# Altium integrated library Capacitor_GOST.IntLib: 2 symbols
Pins are listed as number, name and electrical type; pins without a type are passive.

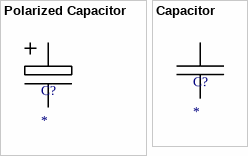
[diagram p0: symbols Polarized Capacitor to Сapacitor]

## Polarized Capacitor
designator C?
Value: *; VCC: *; Tolerance: *; Ta: *; Package: *; PartNumber: *; Manufacturer: *; ComponentLink1Description: Datasheet; ComponentLink1URL: *; ComponentLink2Description: Source; ComponentLink2URL: *
footprint TAJB106K025R
pins: 1, 2

## Сapacitor
designator C?
Value: *; VCC: *; Tolerance: *; Ta: *; Package: *; PartNumber: *; Manufacturer: *; ComponentLink1Description: Datasheet; ComponentLink1URL: *; ComponentLink2Description: Source; ComponentLink2URL: *
footprint 0402 (Chip Capacitor, 2-Leads, Body 1.00x0.50mm, IPC Low Density)
footprint 0603
footprint 0805
footprint 1206
footprint 1210
pins: 1, 2